# Altium schematic symbol library Header IDC 14.SchLib: 1 symbol
Pins are listed as number, name and electrical type; pins without a type are passive.

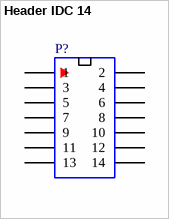
[diagram p0: symbol Header IDC 14]

## Header IDC 14
designator P?
Boxed/shrouded header, 2×7, 14-Pin (IDC)
pins: 1, 2, 3, 4, 5, 6, 7, 8, 9, 10, 11, 12, 13, 14